# Altium integrated library BH-AA-A5BJ012.IntLib: 1 symbol
Pins are listed as number, name and electrical type; pins without a type are passive.

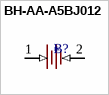
[diagram p0: symbol BH-AA-A5BJ012]

## BH-AA-A5BJ012
designator B?  (value not drawn)
Battery Connectors. -10~100C Battery holder Nickel plated No. 5 Steel - ROHS; Manufacturer: MYOUNG; Component Type: Standard; Design Item ID: BH-AA-A5BJ012; Value: *; JLCPCB Part #: C5290180; Manufacturer Part Number: BH-AA-A5BJ012
footprint BH-AA-A5BJ012 (BAT-TH_BH-AA-A5BJ012)
pins: 1 (in), 2 (in)